# Altium schematic symbol library Inductor.SchLib: 15 symbols
Pins are listed as number, name and electrical type; pins without a type are passive.

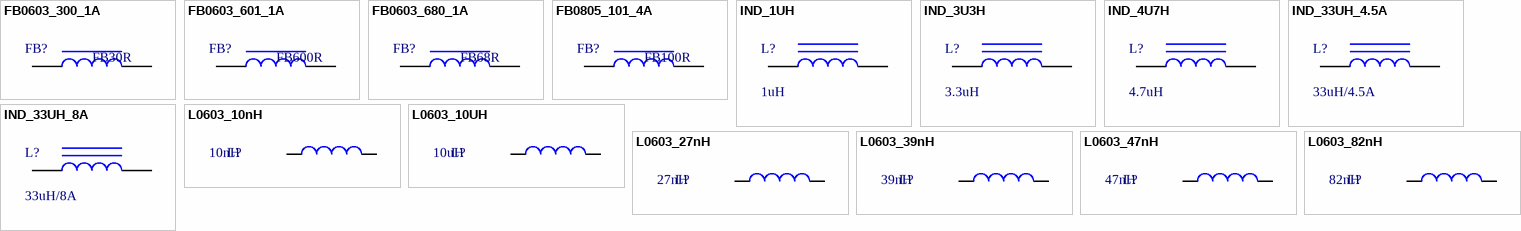
[diagram p0: symbols FB0603_300_1A to L0603_82nH]

## FB0603_300_1A
designator FB?, comment FB30R
Ferrite SMD 0603 30 Ohm 1000MA BLM18PG300SN1D Murata; Anunda_code: M0646; MFG: Wurth Elektronik; MFG P/N: 742792609; Value: FB30R; Code_JEITA: 0603
signal-integrity model Inductor Iron Dot
footprint FB0603 (Chip FB 0603)
pins: 1, 2

## FB0603_601_1A
designator FB?, comment FB600R
Ferrite Bead SMD 0603 600 Ohm MPZ1608S601A TDK; Anunda_code: M0647; MFG: TDK Corporation; MFG P/N: MPZ1608S601ATA00; Value: FB600R; Code_JEITA: 0603
signal-integrity model Inductor Iron Dot
footprint FB0603 (Chip FB 0603)
pins: 1, 2

## FB0603_680_1A
designator FB?, comment FB68R
Ferrite SMD 0603 68 Ohm 1A MI0603J680Rm10; Anunda_code: M0645; MFG: Laird-Signal Integrity Products; MFG P/N: MI0603J680R-10; Value: FB68R; Code_JEITA: 0603
signal-integrity model Inductor Iron Dot
footprint FB0603 (Chip FB 0603)
pins: 1, 2

## FB0805_101_4A
designator FB?, comment FB100R
Chip Beads for Power Line 100 Ohm 25%, / Rate Current 4A / DCR 0.02 Ohm; Anunda_code: M0524; MFG: TDK Corporation; MFG P/N: MPZ2012S101AT; Value: FB100R; Code_JEITA: 0805
signal-integrity model Inductor Iron Dot
footprint FB0805 (Chip FB 0805 ;)
pins: 1, 2

## IND_1UH
designator L?, comment 1uH
Inductor Fixed Power 1uH 3A 30 mOhm 1212 SMD; Anunda_Code: M1918; MFG: Murata Electronics; MFG P/N: LQH3NPN1R0MMEL; Value: 1uH; Code_JEITA: 1212
footprint INDP3030X15N (Precision Wire Wound Inductor, 2-Leads, Body 3.00x3.00mm, IPC Medium Density)
pins: 1, 2

## IND_3U3H
designator L?, comment 3.3uH
Inductor Fixed Power 3.3uH; Anunda_Code: D1093; MFG: Taiyo Yuden; MFG P/N: NRS5040T3R3NMGJ; Value: 3.3uH; Code_JEITA: 2020
footprint INDP4949X31N (Precision Wire Wound Inductor, 2-Leads, Body 4.90x4.90mm, IPC Medium Density)
pins: 1, 2

## IND_4U7H
designator L?, comment 4.7uH
Inductor Fixed Power 4.7uH 980mA 0.117 Ohm; Anunda_Code: M1952; MFG: Murata Electronics; MFG P/N: LQH44PN4R7MJ0L; Value: 4.7uH; Code_JEITA: 1616
footprint INDP4040X12N (Precision Wire Wound Inductor, 2-Leads, Body 4.00x4.00mm, IPC Medium Density)
pins: 1, 2

## IND_33UH_4.5A
designator L?, comment 33uH/4.5A
INDUCTOR SMD 33 UH 4.5A POWER CHOKE; Anunda_Code: M2136; MFG: CODACA; MFG P/N: SPRHS125-330M; Value: 33uH/4.5A
footprint INDP120120X67N (Precision Wire Wound Inductor, 2-Leads, Body 12.00x12.00mm, IPC Medium Density)
pins: 1, 2

## IND_33UH_8A
designator L?, comment 33uH/8A
INDUCTOR SMD SHIELD 33 UH 8A 56MOHM; Anunda_Code: M2147; MFG: Bourns Inc.; MFG P/N: SRP1265C-330M; Value: 33uH/8A
footprint INDP126126X65N (Precision Wire Wound Inductor, 2-Leads, Body 12.60x12.60mm, IPC Medium Density)
pins: 1, 2

## L0603_10nH
designator L?, comment 10nH
Inductor SMD 0603 10 nH 650 mA WW Ceramic; Anunda_code: M1435; MFG: Murata Electronics; MFG P/N: LQW18AN10NJ00D; Code_JEITA: 0603; Value: 10nH
simulation model INDUCTOR (Inductor)
signal-integrity model Inductor
footprint L0603XS (Chip Inductor; Body 1.6 x 0.8 mm (LxW typ))
pins: 1, 2

## L0603_10UH
designator L?, comment 10uH
Inductor smd 0603 10uH; Anunda_code: M1179; MFG: TDK Corporation; MFG P/N: MLZ1608M100WT000; Code_JEITA: 0603; Value: 10uH
simulation model INDUCTOR (Inductor)
signal-integrity model Inductor
footprint L0603XS (Chip Inductor; Body 1.6 x 0.8 mm (LxW typ))
pins: 1, 2

## L0603_27nH
designator L?, comment 27nH
Inductor SMD 0603 27 nH 600 mA WW; Anunda_code: M1717; MFG: Bourns Inc.; MFG P/N: CW160808-27NJ; Code_JEITA: 0603; Value: 27nH
simulation model INDUCTOR (Inductor)
signal-integrity model Inductor
footprint L0603XS (Chip Inductor; Body 1.6 x 0.8 mm (LxW typ))
pins: 1, 2

## L0603_39nH
designator L?, comment 39nH
Inductor smd 0603 39 nH; Anunda_code: M1043; MFG: Bourns Inc.; MFG P/N: PM0603-39NJ-RC; Code_JEITA: 0603; Value: 39nH
simulation model INDUCTOR (Inductor)
signal-integrity model Inductor
footprint L0603XS (Chip Inductor; Body 1.6 x 0.8 mm (LxW typ))
pins: 1, 2

## L0603_47nH
designator L?, comment 47nH
Inductor smd 0603 47 nH; Anunda_code: M1748; MFG: Pulse Electronics; MFG P/N: BSCH0016080847NJ00; Code_JEITA: 0603; Value: 47nH
simulation model INDUCTOR (Inductor)
signal-integrity model Inductor
footprint L0603XS (Chip Inductor; Body 1.6 x 0.8 mm (LxW typ))
pins: 1, 2

## L0603_82nH
designator L?, comment 82nH
Inductor smd 0603 82 nH; Anunda_code: M1034; MFG: Abracon LLC; MFG P/N: AISC-0603-R082J-T; Code_JEITA: 0603; Value: 82nH
simulation model INDUCTOR (Inductor)
signal-integrity model Inductor
footprint L0603XS (Chip Inductor; Body 1.6 x 0.8 mm (LxW typ))
pins: 1, 2